# Altium schematic symbol library MCU20N06BHE3-TP.SchLib: 1 symbol
Pins are listed as number, name and electrical type; pins without a type are passive.

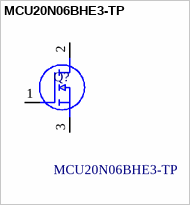
[diagram p0: symbol MCU20N06BHE3-TP]

## MCU20N06BHE3-TP
designator Q?
N-CHANNEL MOSFET,-55C to +150C,DPAK(TO-252); Manufacturer_Name: MCC; Geometry.Height: 2.53mm; Manufacturer_Part_Number: MCU20N06BHE3-TP; Mouser Part Number: *; Mouser Price/Stock: *; Arrow Part Number: *; Arrow Price/Stock: *; Datasheet Link: https://www.mccsemi.com/pdf/Products/MCU20N06BHE3(DPAK).pdf
footprint MCU20N06BHE3TP
pins: 1 G, 2 D, 3 S